# Altium schematic symbol library G-Generator.SCHLIB: 5 symbols
Pins are listed as number, name and electrical type; pins without a type are passive.

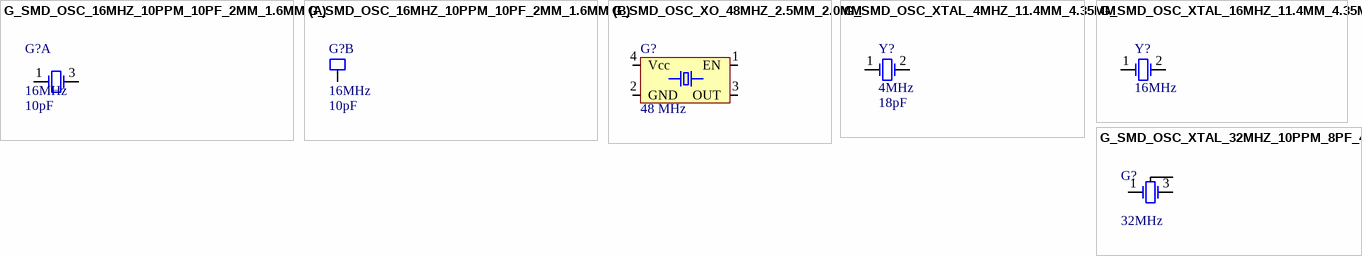
[diagram p0: symbols G_SMD_OSC_16MHZ_10PPM_10PF_2MM_1.6MM to G_SMD_OSC_XTAL_32MHZ_10PPM_8PF_40OHM]

## G_SMD_OSC_16MHZ_10PPM_10PF_2MM_1.6MM
designator G?  value 16MHz  Value2: 10pF  (hidden comment: G_SMD_OSC_16MHZ_10PPM_10PF_2MM_1.6MM)
Supplier - Farnell: 2506946
footprint SMD_QUARTZ_2.0X1.6
part A pins: 1 OSC1, 3 OSC2
part B pins: 2 GND, 4 GND

## G_SMD_OSC_XO_48MHZ_2.5MM_2.0MM
designator G?  value 48 MHz  (hidden comment: G_SMD_OSC_XO_48MHZ_2.5MM_2.0MM)
Oscillator, 48 MHz
footprint SMD_G_2.5MM_2.0MM
pins: 1 EN, 2 GND, 3 OUT, 4 Vcc

## G_SMD_OSC_XTAL_4MHZ_11.4MM_4.35MM
designator Y?  value 4MHz  Load Capacitance: 18pF  (hidden comment: G_SMD_OSC_XTAL_4MHZ_11.4MM_4.35MM)
SMD XTAL; Distributor - Farnell: 1842332
footprint SMD_QUARZ_HC49
pins: 1 OSC1, 2 OSC2

## G_SMD_OSC_XTAL_16MHZ_11.4MM_4.35MM
designator Y?  value 16MHz  (hidden comment: G_SMD_OSC_XTAL_16MHZ_11.4MM_4.35MM)
SMD XTAL
footprint SMD_QUARZ_HC49
pins: 1 OSC1, 2 OSC2

## G_SMD_OSC_XTAL_32MHZ_10PPM_8PF_40OHM
designator G?  value 32MHz  (hidden comment: *)
32MHz ±10ppm Crystal 8pF 40 Ohms 4-SMD, No Lead; Supplier - Digikey: 1908-1300-1-ND
footprint SMD_QUARZ_3.2X2.5
pins: 1 OSC1, 2, 3 OSC2, 4